# EAGLE library part ADC102S021CIMM_NOPB (library ADC102S021CIMM_NOPB)
2 Channel, 50 ksps to 200 ksps, 10-Bit A/D Converter Source: Datasheet <http://www.ti.com/lit/ds/symlink/adc102s021.pdf>
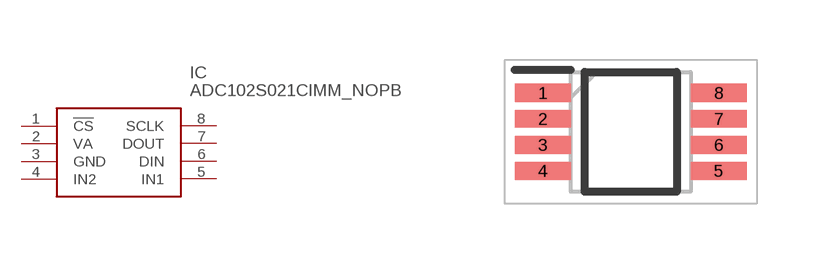
[diagram p0: symbol with the pads of SOP65P490X110-8N; footprint SOP65P490X110-8N]

Designator prefix IC

## ADC102S021CIMM_NOPB (Description: 2 Channel, 50 ksps to 200 ksps, 10-Bit A/D Converter; Height: 1.1mm; Manufacturer_Name: Texas Instruments; Manufacturer_Part_Number: ADC102S021CIMM/NOPB; Mouser_Part_Number: 926-AD102S021CIMMNPB; Mouser_Price-Stock: https://www.mouser.co.uk/ProductDetail/Texas-Instruments/ADC102S021CIMM-NOPB?qs=7X5t%252BdzoRHDLCWKeMhJPog%3D%3D)  [SOP65P490X110-8N]
1  !CS  in
2  VA
3  GND  pwr
4  IN2  in
5  IN1  in
6  DIN  in
7  DOUT  out
8  SCLK  in

## Footprint SOP65P490X110-8N (pad centres in mm)
DGK (S-PDSO-G8)
smd 1.4 x 0.45: 1 -2.2,0.975; 2 -2.2,0.325; 3 -2.2,-0.325; 4 -2.2,-0.975; 5 2.2,-0.975; 6 2.2,-0.325; 7 2.2,0.325; 8 2.2,0.975